# Altium integrated library UG96.IntLib: 1 symbol
Pins are listed as number, name and electrical type; pins without a type are passive.

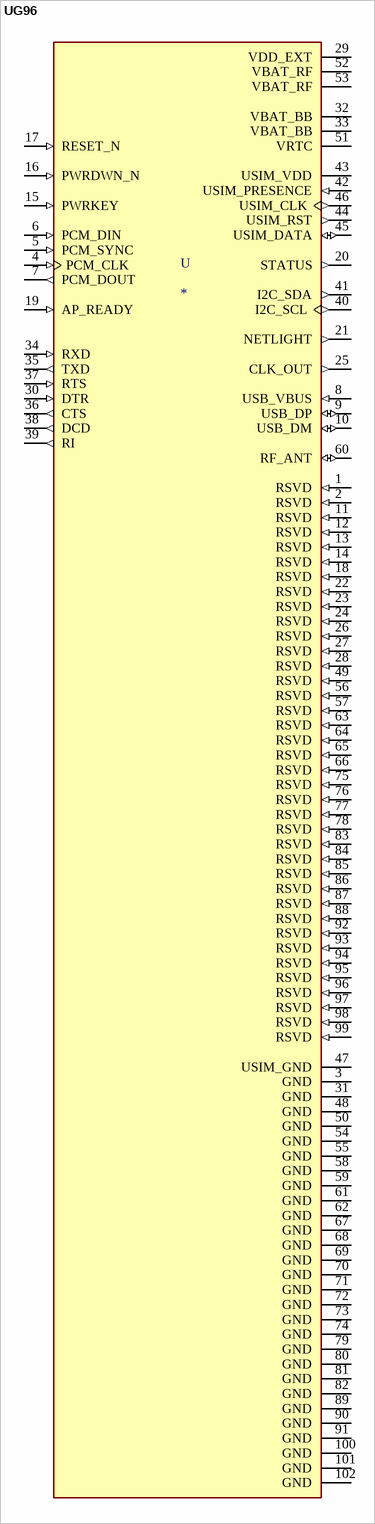
[diagram p0: symbol UG96]

## UG96
designator U
The UG96 is also an UMTS/HSPA module. UG96, UG95 and M95 R2.0 are designed as compatible products.; MF: Quectel; Availability: Unavailable; Package: None; MP: UG96; Value: *; Price: None; SnapEDA_Link: https://www.snapeda.com/parts/UG96/Quectel/view-part/4388409/?ref=snap
footprint XCVR_UG96
pins: 1 RSVD (in), 2 RSVD (in), 3 GND (power), 4 PCM_CLK (in), 5 PCM_SYNC (in), 6 PCM_DIN (in), 7 PCM_DOUT (out), 8 USB_VBUS (in), 9 USB_DP (io), 10 USB_DM (io), 11 RSVD (in), 12 RSVD (in), 13 RSVD (in), 14 RSVD (in), 15 PWRKEY (in), 16 PWRDWN_N (in), 17 RESET_N (in), 18 RSVD (in), 19 AP_READY (in), 20 STATUS (out), 21 NETLIGHT (out), 22 RSVD (in), 23 RSVD (in), 24 RSVD (in), 25 CLK_OUT (out), 26 RSVD (in), 27 RSVD (in), 28 RSVD (in), 29 VDD_EXT (power), 30 DTR (in), 31 GND (power), 32 VBAT_BB (power), 33 VBAT_BB (power), 34 RXD (in), 35 TXD (out), 36 CTS (out), 37 RTS (in), 38 DCD (out), 39 RI (out), 40 I2C_SCL (out), 41 I2C_SDA (out), 42 USIM_PRESENCE (in), 43 USIM_VDD (power), 44 USIM_RST (out), 45 USIM_DATA (io), 46 USIM_CLK (out), 47 USIM_GND (power), 48 GND (power), 49 RSVD (in), 50 GND (power), 51 VRTC (power), 52 VBAT_RF (power), 53 VBAT_RF (power), 54 GND (power), 55 GND (power), 56 RSVD (in), 57 RSVD (in), 58 GND (power), 59 GND (power), 60 RF_ANT (io), 61 GND (power), 62 GND (power), 63 RSVD (in), 64 RSVD (in), 65 RSVD (in), 66 RSVD (in), 67 GND (power), 68 GND (power), 69 GND (power), 70 GND (power), 71 GND (power), 72 GND (power), 73 GND (power), 74 GND (power), 75 RSVD (in), 76 RSVD (in), 77 RSVD (in), 78 RSVD (in), 79 GND (power), 80 GND (power), 81 GND (power), 82 GND (power), 83 RSVD (in), 84 RSVD (in), 85 RSVD (in), 86 RSVD (in), 87 RSVD (in), 88 RSVD (in), 89 GND (power), 90 GND (power), 91 GND (power), 92 RSVD (in), 93 RSVD (in), 94 RSVD (in), 95 RSVD (in), 96 RSVD (in), 97 RSVD (in), 98 RSVD (in), 99 RSVD (in), 100 GND (power), 101 GND (power), 102 GND (power)